# EAGLE library part 7499111005 (library Wurth Electronics Midcom Inc V1-0)
Package Style: HPLE RJ45 Gigabit STD Mounting: THT LED: None Shield: 293-0597 Header: 183-0144 Windings Primary: Aux: Secondary: Best pinouts for production vary per application. Please contact Wurth Electronics Midcom, Inc. for assistance with your custom design. Datasheet: 7499111005 <http://katalog.we-online.de/kataloge/eisos/media/pdf/7499111005.pdf> Website: Wurth Electronics Midcom <http://www.we-online.com/midcom> Contact us Wurth Electronics Midcom, Inc. 121 Airport Dr. Watertown, SD 57201 Phone: (605) 886-4385 Fax: (605) 886-4486 E-Mail: midcom@we-online.com
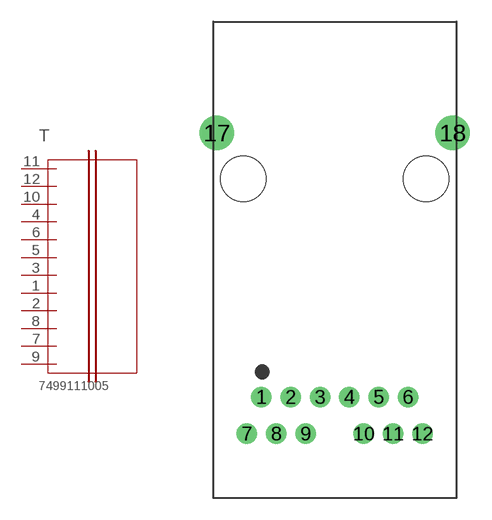
[diagram p180: symbol with the pads of 01LAN_RJ45_GIGABIT_STD; footprint 01LAN_RJ45_GIGABIT_STD]

Designator prefix T

## 7499111005  [01LAN_RJ45_GIGABIT_STD]
1  8  pas
2  9  pas
3  7  pas
4  4  pas
5  6  pas
6  5  pas
7  11  pas
8  10  pas
9  12  pas
10  3  pas
11  1  pas
12  2  pas

## Footprint 01LAN_RJ45_GIGABIT_STD (pad centres in mm)
Package Style: RJ45 Gigabit ST Mounting: THT LED: None
drill 0.914 round: 1 -5.08,-9.525; 2 -3.048,-9.525; 3 -1.016,-9.525; 4 1.016,-9.525; 5 3.048,-9.525; 6 5.08,-9.525; 7 -6.083,-12.065; 8 -4.051,-12.065; 9 -2.019,-12.065; 10 2.019,-12.065; 11 4.051,-12.065; 12 6.083,-12.065
drill 1.6 round: 17 -8.179,8.788; 18 8.179,8.788
hole 3.15 at -6.35,5.613
hole 3.15 at 6.35,5.613